# EAGLE library part ALM-38140-BLKG (library Tristan_Robitaille's_Library)
50MHz – 4GHz PIN Diode Variable Attenuator Module Technical specifications: Attenuation range: 36dB ~ 42dB Supply voltage: 2.7V Max. current draw: 51.4 Frequency range: 50MHz ~ 4GHz Impedance: 50Ω Power dissipation: 300mW Datasheet <http://www.avagotech.com/docs/AV02-1987EN> Digi-Key part #: 516-2185-ND <http://www.digikey.ca/product-detail/en/broadcom-limited/ALM-38140-BLKG/516-2185-ND/2210939> Mouser part #: 630-ALM-38140-BLKG <http://ca.mouser.com/ProductDetail/Broadcom-Avago/ALM-38140-BLKG/?qs=sGAEpiMZZMu8UjT63VDmaS%252bi3mAXUTwMvYsdKwziTj8%3d> Manufacturer part #: ALM-38140-BLKG
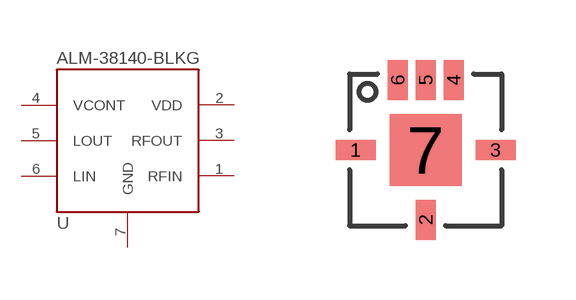
[diagram p22: symbol with the pads of 6-MCOB; footprint 6-MCOB]

Designator prefix U

## ALM-38140-BLKG (DIGIKEY#: 516-2185-ND; MANF: 50MHz – 4GHz PIN Diode Variable Attenuator Module; MANF#: ALM-38140-BLKG; MOUSER#: 630-ALM-38140-BLKG)  [6-MCOB]
1  RFIN  in
2  VDD  pwr
3  RFOUT  out
4  VCONT  in
5  LOUT  out
6  LIN  in
7  GND  pwr

## Footprint 6-MCOB (pad centres in mm)
smd 1 x 0.5: 1 -1.75,0; 3 1.75,0
smd 0.5 x 1: 2 0,-1.75; 4 0.7,1.75; 5 0,1.75; 6 -0.7,1.75
smd 1.8 x 1.8: 7 0,0